# EAGLE library part OSRAM_SHF9201 (library 1AA_Stofer)
Osram reflective opto interrupter
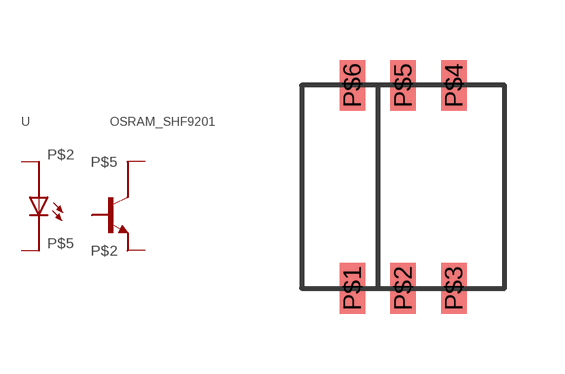
[diagram p32: symbol with the pads of OSRAM-6; footprint OSRAM-6]

Designator prefix -

## OSRAM_SHF9201  [OSRAM-6]
P$1  AN  pas
P$2  P$5  nc
P$3  E  pas
P$4  C  pas
P$5  P$2  nc
P$6  CATH  pas

## Footprint OSRAM-6 (pad centres in mm)
smd 0.635 x 1.27: P$1 0,-1.27; P$2 1.27,-1.27; P$3 2.54,-1.27; P$4 2.54,3.81; P$5 1.27,3.81; P$6 0,3.81